# EAGLE library part AM3356BZCZA80 (library circuit_tree)
IC
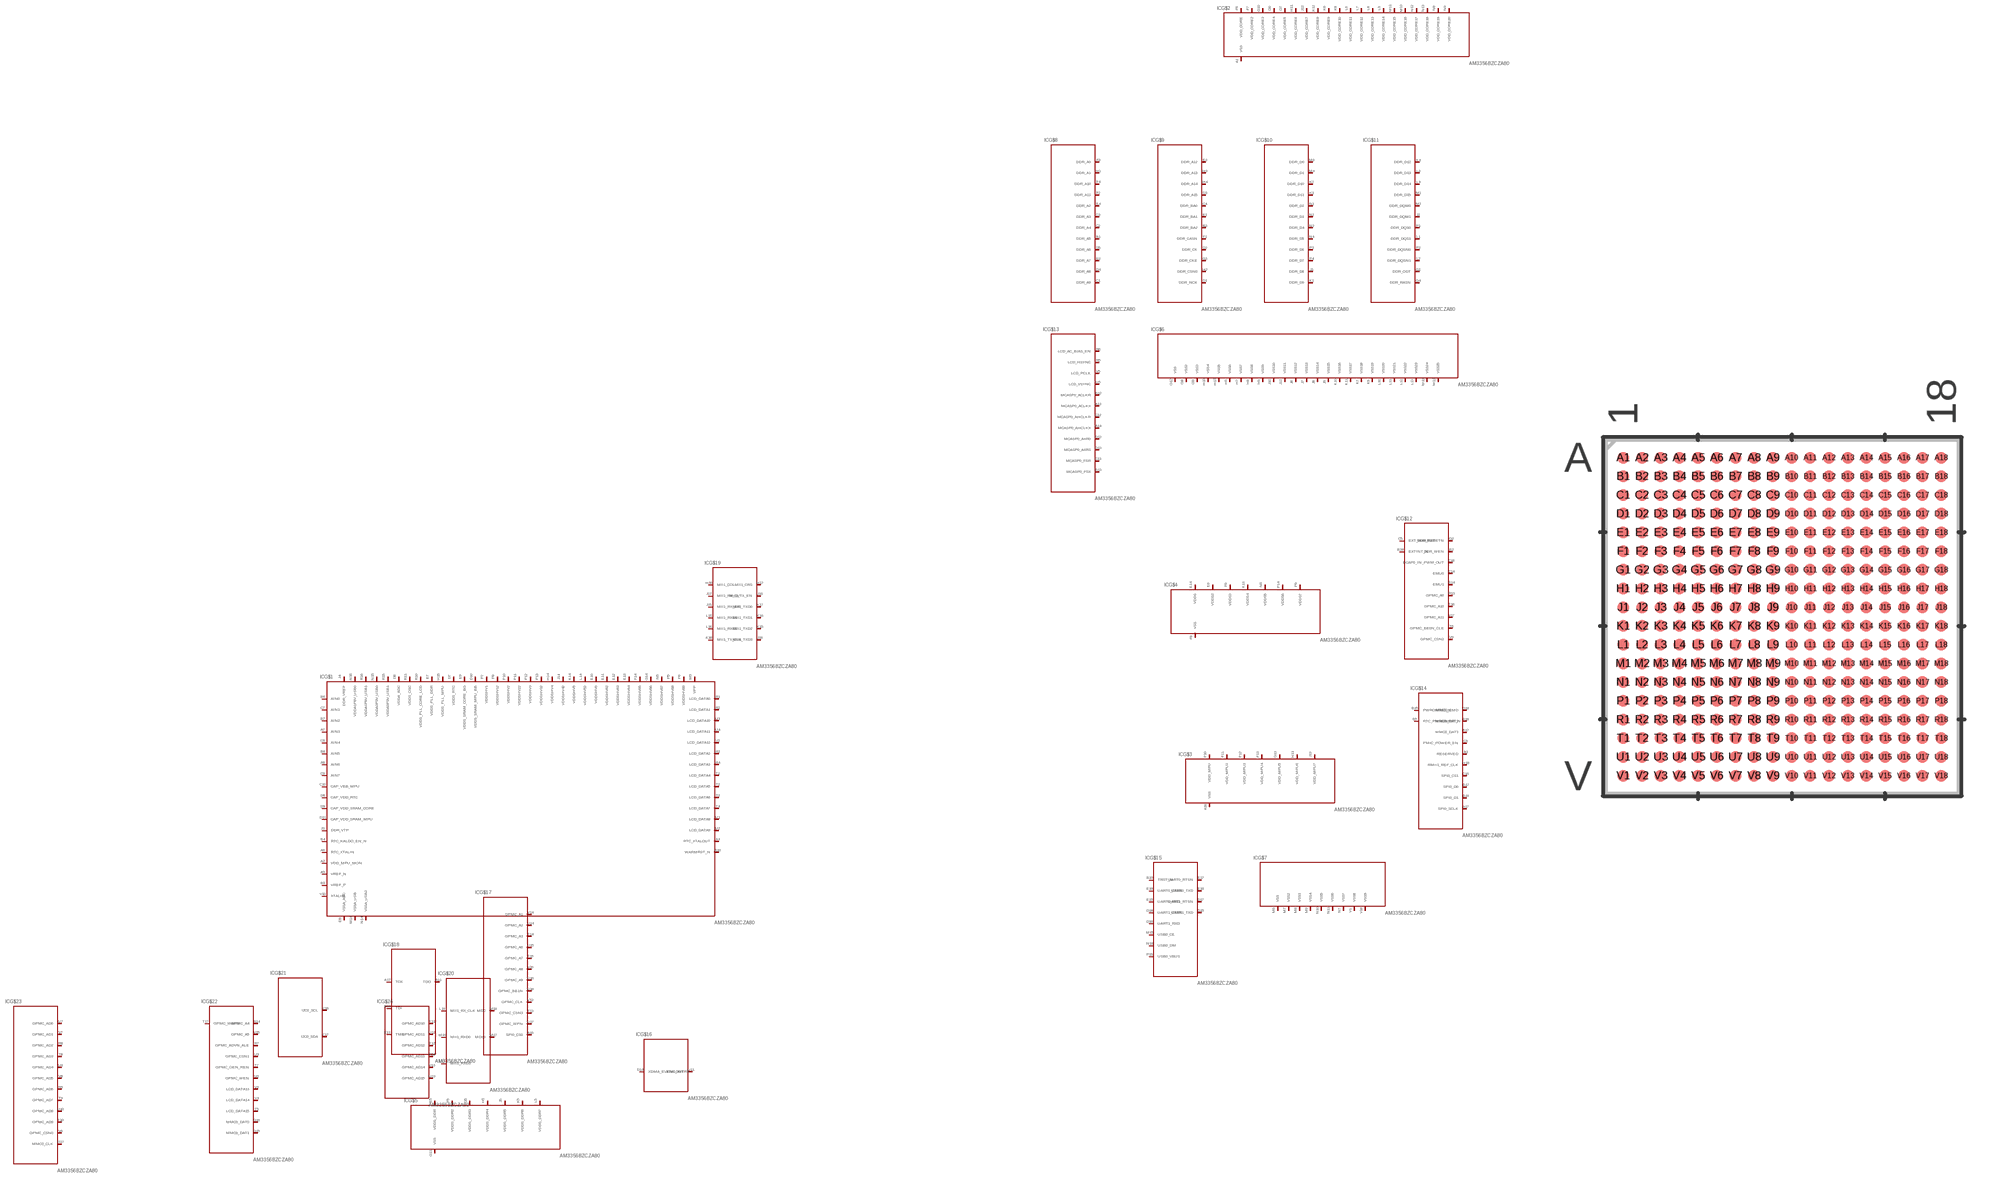
[diagram p2: symbol with the pads of LFBGA324; footprint LFBGA324]

Designator prefix IC; gates G$1=AM3356BZCZA80 G$2=AM3356BZCZA802 G$3=AM3356BZCZA803 G$4=AM3356BZCZA804 G$5=AM3356BZCZA805 G$6=AM3356BZCZA806 G$7=AM3356BZCZA807 G$8=AM3356BZCZA808 G$9=AM3356BZCZA809 G$10=AM3356BZCZA8010 G$11=AM3356BZCZA8011 G$12=AM3356BZCZA8012 G$13=AM3356BZCZA8013 G$14=AM3356BZCZA8014 G$15=AM3356BZCZA8015 G$16=AM3356BZCZA8016 G$17=AM3356BZCZA8017 G$18=AM3356BZCZA8018 G$19=AM3356BZCZA8019 G$20=AM3356BZCZA8020 G$21=AM3356BZCZA8021 G$22=AM3356BZCZA8022 G$23=AM3356BZCZA8023 G$24=AM3356BZCZA8024

## AM3356BZCZA80  [LFBGA324]
A1  G$2:VSS  pas
A2  G$1:VDD_MPU_MON  pas
A3  G$14:RESERVED  pas
A4  G$1:RTC_XTALOUT  pas
A6  G$1:RTC_XTALIN  pas
A7  G$1:AIN3  pas
A8  G$1:AIN6  pas
A9  G$1:VREF_N  pas
A10  G$1:WARMRST_N  pas
A11  G$18:TDO  pas
A12  G$18:TCK  pas
A13  G$13:MCASP0_ACLKX  pas
A14  G$13:MCASP0_AHCLKX  pas
A16  G$17:SPI0_CS0  pas
A17  G$14:SPI0_SCLK  pas
A18  G$3:VSS  pas
B1  G$8:DDR_A5  pas
B2  G$12:DDR_WEN  pas
B3  G$9:DDR_BA2  pas
B4  G$1:RTC_KALDO_EN_N  pas
B5  G$14:RTC_PWRONRST_N  pas
B6  G$1:AIN0  pas
B7  G$1:AIN2  pas
B8  G$1:AIN5  pas
B9  G$1:VREF_P  pas
B10  G$15:TRST_N  pas
B11  G$18:TDI  pas
B12  G$13:MCASP0_ACLKR  pas
B13  G$13:MCASP0_FSX  pas
B14  G$12:EMU1  pas
B15  G$14:PWRONRST_N  pas
B16  G$14:SPI0_D1  pas
B17  G$14:SPI0_D0  pas
B18  G$12:EXTINT_N  pas
C1  G$8:DDR_A9  pas
C2  G$8:DDR_A4  pas
C3  G$8:DDR_A3  pas
C4  G$9:DDR_BA0  pas
C5  G$12:EXT_WAKEUP  pas
C6  G$14:PMIC_POWER_EN  pas
C7  G$1:AIN1  pas
C8  G$1:AIN4  pas
C9  G$1:AIN7  pas
C10  G$1:CAP_VBB_MPU  pas
C11  G$18:TMS  pas
C12  G$13:MCASP0_AHCLKR  pas
C13  G$13:MCASP0_FSR  pas
C14  G$12:EMU0  pas
C15  G$14:SPI0_CS1  pas
C16  G$21:I2C0_SCL  pas
C17  G$21:I2C0_SDA  pas
C18  G$12:ECAP0_IN_PWM_OUT  pas
D1  G$9:DDR_NCK  pas
D2  G$9:DDR_CK  pas
D3  G$9:DDR_A15  pas
D4  G$8:DDR_A8  pas
D5  G$8:DDR_A6  pas
D6  G$1:CAP_VDD_RTC  pas
D7  G$1:VDDS_RTC  pas
D8  G$1:VDDA_ADC  pas
D9  G$1:CAP_VDD_SRAM_CORE  pas
D10  G$1:VDDS_SRAM_MPU_BB  pas
D11  G$1:CAP_VDD_SRAM_MPU  pas
D12  G$13:MCASP0_AXR0  pas
D13  G$13:MCASP0_AXR1  pas
D14  G$16:XDMA_EVENT_INTR1  pas
D15  G$15:UART1_TXD  pas
D16  G$15:UART1_RXD  pas
D17  G$15:UART1_RTSN  pas
D18  G$15:UART1_CTSN  pas
E1  G$9:DDR_BA1  pas
E2  G$8:DDR_A7  pas
E3  G$9:DDR_A12  pas
E4  G$8:DDR_A2  pas
E5  G$5:VDDS_DDR  pas
E6  G$4:VDDS2  pas
E7  G$1:VDDS_PLL_DDR  pas
E8  G$1:VSSA_ADC  pas
E9  G$1:VDDS_SRAM_CORE_BG  pas
E10  G$1:VDDSHV6  pas
E11  G$1:VDDSHV62  pas
E12  G$1:VDDSHV63  pas
E13  G$1:VDDSHV64  pas
E14  G$4:VDDS  pas
E15  G$15:UART0_RXD  pas
E16  G$15:UART0_TXD  pas
E17  G$15:UART0_RTSN  pas
E18  G$15:UART0_CTSN  pas
F1  G$9:DDR_CASN  pas
F2  G$8:DDR_A11  pas
F3  G$8:DDR_A0  pas
F4  G$8:DDR_A10  pas
F5  G$5:VDDS_DDR2  pas
F6  G$2:VDD_CORE  pas
F7  G$2:VDD_CORE2  pas
F8  G$4:VSS  pas
F9  G$4:VDDS3  pas
F10  G$3:VDD_MPU  pas
F11  G$3:VDD_MPU2  pas
F12  G$3:VDD_MPU3  pas
F13  G$3:VDD_MPU4  pas
F14  G$1:VDDSHV65  pas
F17  G$14:MMC0_DAT3  pas
F18  G$14:MMC0_DAT2  pas
G1  G$11:DDR_ODT  pas
G2  G$12:DDR_RESETN  pas
G3  G$9:DDR_CKE  pas
G4  G$11:DDR_RASN  pas
G5  G$5:VDDS_DDR3  pas
G6  G$2:VDD_CORE4  pas
G7  G$2:VDD_CORE5  pas
G8  G$6:VSS2  pas
G9  G$6:VSS3  pas
G10  G$2:VDD_CORE3  pas
G11  G$5:VSS  pas
G12  G$6:VSS  pas
G13  G$3:VDD_MPU5  pas
G14  G$1:VDDSHV66  pas
G15  G$22:MMC0_DAT1  pas
G16  G$22:MMC0_DAT0  pas
G17  G$23:MMC0_CLK  pas
G18  G$14:MMC0_CMD  pas
H1  G$8:DDR_A1  pas
H2  G$9:DDR_CSN0  pas
H3  G$9:DDR_A13  pas
H4  G$9:DDR_A14  pas
H5  G$5:VDDS_DDR4  pas
H6  G$6:VSS6  pas
H7  G$6:VSS7  pas
H8  G$6:VSS8  pas
H9  G$6:VSS9  pas
H10  G$6:VSS4  pas
H11  G$2:VDD_CORE6  pas
H12  G$6:VSS5  pas
H13  G$3:VDD_MPU6  pas
H14  G$1:VDDSHV4  pas
H15  G$1:VDDS_PLL_MPU  pas
H16  G$19:MII1_COL  pas
H17  G$19:MII1_CRS  pas
H18  G$14:RMII1_REF_CLK  pas
J1  G$10:DDR_D8  pas
J2  G$11:DDR_DQM1  pas
J3  G$1:DDR_VTP  pas
J4  G$1:DDR_VREF  pas
J5  G$5:VDDS_DDR5  pas
J6  G$6:VSS12  pas
J7  G$6:VSS13  pas
J8  G$6:VSS14  pas
J9  G$6:VSS15  pas
J10  G$6:VSS10  pas
J11  G$6:VSS11  pas
J12  G$2:VDD_CORE7  pas
J13  G$3:VDD_MPU7  pas
J14  G$1:VDDSHV42  pas
J15  G$19:MII1_RX_ER  pas
J16  G$19:MII1_TX_EN  pas
J17  G$19:MII1_RX_DV  pas
J18  G$19:MII1_TXD3  pas
K1  G$10:DDR_D9  pas
K2  G$10:DDR_D10  pas
K3  G$10:DDR_D11  pas
K4  G$11:DDR_D12  pas
K5  G$5:VDDS_DDR6  pas
K6  G$2:VDD_CORE9  pas
K7  G$6:VSS18  pas
K8  G$2:VDD_CORE10  pas
K9  G$6:VSS19  pas
K10  G$6:VSS16  pas
K11  G$6:VSS17  pas
K12  G$2:VDD_CORE8  pas
K13  G$4:VDDS4  pas
K14  G$1:VDDSHV5  pas
K15  G$19:MII1_TXD2  pas
K16  G$19:MII1_TXD1  pas
K17  G$19:MII1_TXD0  pas
K18  G$19:MII1_TX_CLK  pas
L1  G$11:DDR_DQS1  pas
L2  G$11:DDR_DQSN1  pas
L3  G$11:DDR_D13  pas
L4  G$11:DDR_D14  pas
L5  G$5:VDDS_DDR7  pas
L6  G$2:VDD_CORE11  pas
L7  G$2:VDD_CORE12  pas
L8  G$2:VDD_CORE13  pas
L9  G$2:VDD_CORE14  pas
L10  G$6:VSS20  pas
L11  G$6:VSS21  pas
L12  G$6:VSS22  pas
L13  G$6:VSS23  pas
L14  G$1:VDDSHV52  pas
L15  G$19:MII1_RXD1  pas
L16  G$19:MII1_RXD2  pas
L17  G$20:MII1_RXD3  pas
L18  G$20:MII1_RX_CLK  pas
M1  G$11:DDR_D15  pas
M2  G$11:DDR_DQM0  pas
M3  G$10:DDR_D0  pas
M4  G$10:DDR_D1  pas
M5  G$1:VPP  pas
M6  G$7:VSS  pas
M7  G$7:VSS2  pas
M8  G$7:VSS3  pas
M9  G$7:VSS4  pas
M10  G$6:VSS24  pas
M11  G$2:VDD_CORE15  pas
M12  G$6:VSS25  pas
M13  G$2:VDD_CORE16  pas
M14  G$1:VSSA_USB  pas
M15  G$15:USB0_CE  pas
M16  G$20:MII1_RXD0  pas
M17  G$20:MDIO  pas
M18  G$20:MDC  pas
N1  G$10:DDR_D2  pas
N2  G$10:DDR_D3  pas
N3  G$10:DDR_D4  pas
N4  G$10:DDR_D5  pas
N5  G$1:VDDSHV67  pas
N6  G$4:VDDS5  pas
N7  G$7:VSS7  pas
N8  G$2:VDD_CORE19  pas
N9  G$2:VDD_CORE20  pas
N10  G$7:VSS5  pas
N11  G$7:VSS6  pas
N12  G$2:VDD_CORE17  pas
N13  G$2:VDD_CORE18  pas
N14  G$1:VSSA_USB2  pas
N15  G$1:VDDA3P3V_USB0  pas
N16  G$1:VDDA1P8V_USB0  pas
N18  G$15:USB0_DM  pas
P1  G$11:DDR_DQS0  pas
P2  G$11:DDR_DQSN0  pas
P3  G$10:DDR_D6  pas
P4  G$10:DDR_D7  pas
P5  G$1:VDDSHV68  pas
P6  G$1:VDDSHV69  pas
P7  G$1:VDDSHV1  pas
P8  G$1:VDDSHV12  pas
P9  G$4:VDDS7  pas
P10  G$1:VDDSHV2  pas
P11  G$1:VDDSHV22  pas
P12  G$1:VDDSHV3  pas
P13  G$1:VDDSHV32  pas
P14  G$4:VDDS6  pas
P15  G$15:USB0_VBUS  pas
R1  G$1:LCD_DATA0  pas
R2  G$1:LCD_DATA1  pas
R3  G$1:LCD_DATA2  pas
R4  G$1:LCD_DATA3  pas
R5  G$13:LCD_HSYNC  pas
R6  G$13:LCD_AC_BIAS_EN  pas
R7  G$22:GPMC_ADVN_ALE  pas
R8  G$23:GPMC_AD2  pas
R9  G$23:GPMC_AD6  pas
R10  G$1:VDDS_PLL_CORE_LCD  pas
R11  G$1:VDDS_OSC  pas
R12  G$24:GPMC_AD13  pas
R13  G$12:GPMC_A0  pas
R14  G$22:GPMC_A4  pas
R15  G$1:VDDA3P3V_USB1  pas
R16  G$1:VDDA1P8V_USB1  pas
T1  G$1:LCD_DATA4  pas
T2  G$1:LCD_DATA5  pas
T3  G$1:LCD_DATA6  pas
T4  G$1:LCD_DATA7  pas
T5  G$22:LCD_DATA15  pas
T6  G$12:GPMC_BE0N_CLE  pas
T7  G$22:GPMC_OEN_REN  pas
T8  G$23:GPMC_AD3  pas
T9  G$23:GPMC_AD7  pas
T10  G$23:GPMC_AD9  pas
T11  G$24:GPMC_AD10  pas
T12  G$24:GPMC_AD12  pas
T13  G$17:GPMC_CSN3  pas
T14  G$17:GPMC_A3  pas
T15  G$17:GPMC_A7  pas
T16  G$12:GPMC_A10  pas
T17  G$22:GPMC_WAIT0  pas
U1  G$1:LCD_DATA8  pas
U2  G$1:LCD_DATA9  pas
U3  G$1:LCD_DATA10  pas
U4  G$1:LCD_DATA11  pas
U5  G$13:LCD_VSYNC  pas
U6  G$22:GPMC_WEN  pas
U7  G$23:GPMC_AD0  pas
U8  G$23:GPMC_AD4  pas
U9  G$22:GPMC_CSN1  pas
U10  G$23:GPMC_AD8  pas
U11  G$16:XTALOUT  pas
U12  G$24:GPMC_AD11  pas
U13  G$24:GPMC_AD15  pas
U14  G$17:GPMC_A2  pas
U15  G$17:GPMC_A6  pas
U16  G$17:GPMC_A9  pas
U17  G$17:GPMC_WPN  pas
U18  G$17:GPMC_BE1N  pas
V1  G$7:VSS8  pas
V2  G$1:LCD_DATA12  pas
V3  G$22:LCD_DATA13  pas
V4  G$22:LCD_DATA14  pas
V5  G$13:LCD_PCLK  pas
V6  G$23:GPMC_CSN0  pas
V7  G$23:GPMC_AD1  pas
V8  G$23:GPMC_AD5  pas
V9  G$12:GPMC_CSN2  pas
V10  G$1:XTALIN  pas
V12  G$17:GPMC_CLK  pas
V13  G$24:GPMC_AD14  pas
V14  G$17:GPMC_A1  pas
V15  G$22:GPMC_A5  pas
V16  G$17:GPMC_A8  pas
V17  G$12:GPMC_A11  pas
V18  G$7:VSS9  pas

## Footprint LFBGA324 (pad centres in mm)
smd 0.508 x 0.508: A1 -6.8,6.8; A2 -6,6.8; A3 -5.2,6.8; A4 -4.4,6.8; A5 -3.6,6.8; A6 -2.8,6.8; A7 -2,6.8; A8 -1.2,6.8; A9 -0.4,6.8; A10 0.4,6.8; A11 1.2,6.8; A12 2,6.8; A13 2.8,6.8; A14 3.6,6.8; A15 4.4,6.8; A16 5.2,6.8; A17 6,6.8; A18 6.8,6.8; B1 -6.8,6; B2 -6,6; B3 -5.2,6; B4 -4.4,6; B5 -3.6,6; B6 -2.8,6; B7 -2,6; B8 -1.2,6; B9 -0.4,6; B10 0.4,6; B11 1.2,6; B12 2,6; B13 2.8,6; B14 3.6,6; B15 4.4,6; B16 5.2,6; B17 6,6; B18 6.8,6; C1 -6.8,5.2; C2 -6,5.2; C3 -5.2,5.2; C4 -4.4,5.2; C5 -3.6,5.2; C6 -2.8,5.2; C7 -2,5.2; C8 -1.2,5.2; C9 -0.4,5.2; C10 0.4,5.2; C11 1.2,5.2; C12 2,5.2; C13 2.8,5.2; C14 3.6,5.2; C15 4.4,5.2; C16 5.2,5.2; C17 6,5.2; C18 6.8,5.2; D1 -6.8,4.4; D2 -6,4.4; D3 -5.2,4.4; D4 -4.4,4.4; D5 -3.6,4.4; D6 -2.8,4.4; D7 -2,4.4; D8 -1.2,4.4; D9 -0.4,4.4; D10 0.4,4.4; D11 1.2,4.4; D12 2,4.4; D13 2.8,4.4; D14 3.6,4.4; D15 4.4,4.4; D16 5.2,4.4; D17 6,4.4; D18 6.8,4.4; E1 -6.8,3.6; E2 -6,3.6; E3 -5.2,3.6; E4 -4.4,3.6; E5 -3.6,3.6; E6 -2.8,3.6; E7 -2,3.6; E8 -1.2,3.6; E9 -0.4,3.6; E10 0.4,3.6; E11 1.2,3.6; E12 2,3.6; E13 2.8,3.6; E14 3.6,3.6; E15 4.4,3.6; E16 5.2,3.6; E17 6,3.6; E18 6.8,3.6; F1 -6.8,2.8; F2 -6,2.8; F3 -5.2,2.8; F4 -4.4,2.8; F5 -3.6,2.8; F6 -2.8,2.8; F7 -2,2.8; F8 -1.2,2.8; F9 -0.4,2.8; F10 0.4,2.8; F11 1.2,2.8; F12 2,2.8; F13 2.8,2.8; F14 3.6,2.8; F15 4.4,2.8; F16 5.2,2.8; F17 6,2.8; F18 6.8,2.8; G1 -6.8,2; G2 -6,2; G3 -5.2,2; G4 -4.4,2; G5 -3.6,2; G6 -2.8,2; G7 -2,2; G8 -1.2,2; G9 -0.4,2; G10 0.4,2; G11 1.2,2; G12 2,2; G13 2.8,2; G14 3.6,2; G15 4.4,2; G16 5.2,2; G17 6,2; G18 6.8,2; H1 -6.8,1.2; H2 -6,1.2; H3 -5.2,1.2; H4 -4.4,1.2; H5 -3.6,1.2; H6 -2.8,1.2; H7 -2,1.2; H8 -1.2,1.2; H9 -0.4,1.2; H10 0.4,1.2; H11 1.2,1.2; H12 2,1.2; H13 2.8,1.2; H14 3.6,1.2; H15 4.4,1.2; H16 5.2,1.2; H17 6,1.2; H18 6.8,1.2; J1 -6.8,0.4; J2 -6,0.4; J3 -5.2,0.4; J4 -4.4,0.4; J5 -3.6,0.4; J6 -2.8,0.4; J7 -2,0.4; J8 -1.2,0.4; J9 -0.4,0.4; J10 0.4,0.4; J11 1.2,0.4; J12 2,0.4; J13 2.8,0.4; J14 3.6,0.4; J15 4.4,0.4; J16 5.2,0.4; J17 6,0.4; J18 6.8,0.4; K1 -6.8,-0.4; K2 -6,-0.4; K3 -5.2,-0.4; K4 -4.4,-0.4; K5 -3.6,-0.4; K6 -2.8,-0.4; K7 -2,-0.4; K8 -1.2,-0.4; K9 -0.4,-0.4; K10 0.4,-0.4; K11 1.2,-0.4; K12 2,-0.4; K13 2.8,-0.4; K14 3.6,-0.4; K15 4.4,-0.4; K16 5.2,-0.4; K17 6,-0.4; K18 6.8,-0.4; L1 -6.8,-1.2; L2 -6,-1.2; L3 -5.2,-1.2; L4 -4.4,-1.2; L5 -3.6,-1.2; L6 -2.8,-1.2; L7 -2,-1.2; L8 -1.2,-1.2; L9 -0.4,-1.2; L10 0.4,-1.2; L11 1.2,-1.2; L12 2,-1.2; L13 2.8,-1.2; L14 3.6,-1.2; L15 4.4,-1.2; L16 5.2,-1.2; L17 6,-1.2; L18 6.8,-1.2; M1 -6.8,-2; M2 -6,-2; M3 -5.2,-2; M4 -4.4,-2; M5 -3.6,-2; M6 -2.8,-2; M7 -2,-2; M8 -1.2,-2; M9 -0.4,-2; M10 0.4,-2; M11 1.2,-2; M12 2,-2; M13 2.8,-2; M14 3.6,-2; M15 4.4,-2; M16 5.2,-2; M17 6,-2; M18 6.8,-2; N1 -6.8,-2.8; N2 -6,-2.8; N3 -5.2,-2.8; N4 -4.4,-2.8; N5 -3.6,-2.8; N6 -2.8,-2.8; N7 -2,-2.8; N8 -1.2,-2.8; N9 -0.4,-2.8; N10 0.4,-2.8; N11 1.2,-2.8; N12 2,-2.8; N13 2.8,-2.8; N14 3.6,-2.8; N15 4.4,-2.8; N16 5.2,-2.8; N17 6,-2.8; N18 6.8,-2.8; P1 -6.8,-3.6; P2 -6,-3.6; P3 -5.2,-3.6; P4 -4.4,-3.6; P5 -3.6,-3.6; P6 -2.8,-3.6; P7 -2,-3.6; P8 -1.2,-3.6; P9 -0.4,-3.6; P10 0.4,-3.6; P11 1.2,-3.6; P12 2,-3.6; P13 2.8,-3.6; P14 3.6,-3.6; P15 4.4,-3.6; P16 5.2,-3.6; P17 6,-3.6; P18 6.8,-3.6; R1 -6.8,-4.4; R2 -6,-4.4; R3 -5.2,-4.4; R4 -4.4,-4.4; R5 -3.6,-4.4; R6 -2.8,-4.4; R7 -2,-4.4; R8 -1.2,-4.4; R9 -0.4,-4.4; R10 0.4,-4.4; R11 1.2,-4.4; R12 2,-4.4; R13 2.8,-4.4; R14 3.6,-4.4; R15 4.4,-4.4; R16 5.2,-4.4; R17 6,-4.4; R18 6.8,-4.4; T1 -6.8,-5.2; T2 -6,-5.2; T3 -5.2,-5.2; T4 -4.4,-5.2; T5 -3.6,-5.2; T6 -2.8,-5.2; T7 -2,-5.2; T8 -1.2,-5.2; T9 -0.4,-5.2; T10 0.4,-5.2; T11 1.2,-5.2; T12 2,-5.2; T13 2.8,-5.2; T14 3.6,-5.2; T15 4.4,-5.2; T16 5.2,-5.2; T17 6,-5.2; T18 6.8,-5.2; U1 -6.8,-6; U2 -6,-6; U3 -5.2,-6; U4 -4.4,-6; U5 -3.6,-6; U6 -2.8,-6; U7 -2,-6; U8 -1.2,-6; U9 -0.4,-6; U10 0.4,-6; U11 1.2,-6; U12 2,-6; U13 2.8,-6; U14 3.6,-6; U15 4.4,-6; U16 5.2,-6; U17 6,-6; U18 6.8,-6; V1 -6.8,-6.8; V2 -6,-6.8; V3 -5.2,-6.8; V4 -4.4,-6.8; V5 -3.6,-6.8; V6 -2.8,-6.8; V7 -2,-6.8; V8 -1.2,-6.8; V9 -0.4,-6.8; V10 0.4,-6.8; V11 1.2,-6.8; V12 2,-6.8; V13 2.8,-6.8; V14 3.6,-6.8; V15 4.4,-6.8; V16 5.2,-6.8; V17 6,-6.8; V18 6.8,-6.8